# Altium footprint library SOT-223.PcbLib: 1 footprints
Each footprint in its own frame and in the unit in brackets; x right, y up, seen from the top. Pads: shape width x height; smd on the part's side, far side on the other; paste and mask are expansions set on the pad; w line width, h text height; cw(c..) or ccw(c..) is an arc to the next point about the centre after c.
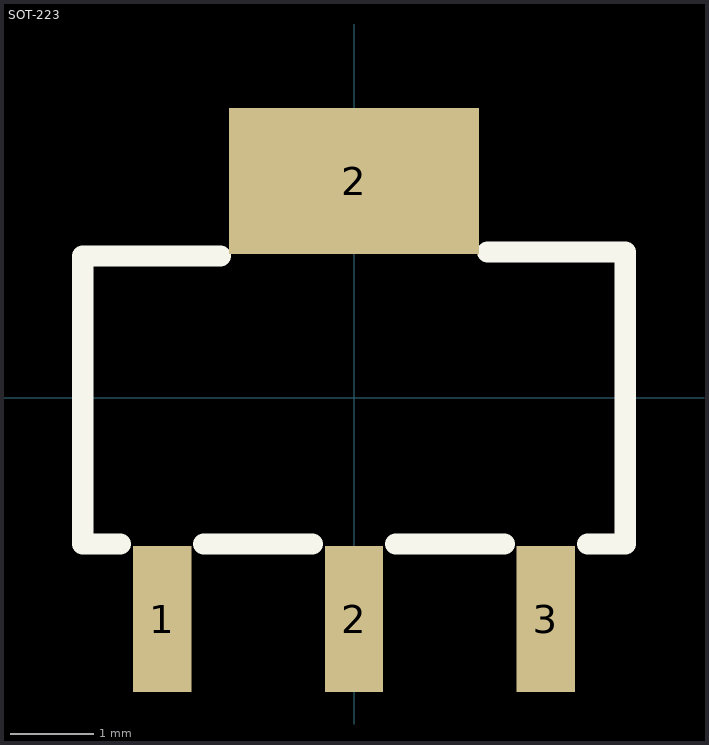
[diagram p0: the footprint, top view; thin cyan lines are the x and y axes]

## SOT-223 [mm]
pads (4):
  rect 0.7x1.75 smd: 1(-2.3,-2.65) 2(0,-2.65) 3(2.3,-2.65)
  rect 3x1.75 smd: 2(0,2.6)
Top Overlay:
  lines w0.254: -2.8,-1.75 -3.25,-1.75 -3.25,1.7 -1.6,1.7 ; -1.8,-1.75 -0.5,-1.75 ; 0.5,-1.75 1.8,-1.75 ; 1.6,1.75 3.25,1.75 3.25,-1.75 2.8,-1.75